# EAGLE library part LT1360CS8PBF (library CDC_Parts)
50MHz, 800V/us Op Amp
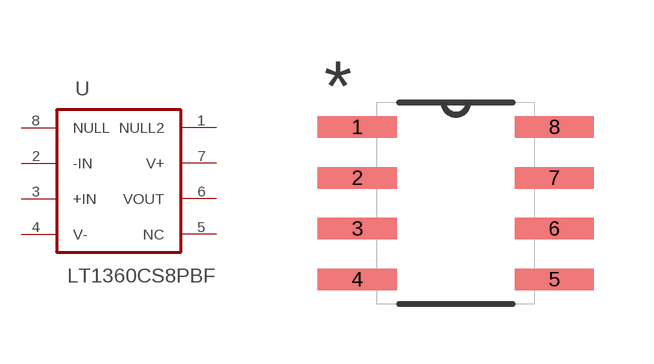
[diagram p5: symbol with the pads of SO8; footprint SO8]

Designator prefix U

## LT1360CS8PBF (MPN: LT1360CS8#PBF; OC_FARNELL: 1330641; OC_NEWARK: 57M3487; PACKAGE: SOIC-8; SUPPLIER: Linear Technology)  [SO8]
1  NULL2  pas
2  -IN  in
3  +IN  in
4  V-  pwr
5  NC  nc
6  VOUT  out
7  V+  pwr
8  NULL  pas

## Footprint SO8 (pad centres in mm)
smd 1.981 x 0.533: 1 -2.464,1.905; 2 -2.464,0.635; 3 -2.464,-0.635; 4 -2.464,-1.905; 5 2.464,-1.905; 6 2.464,-0.635; 7 2.464,0.635; 8 2.464,1.905